# EAGLE library part KAS?103R* (library esw-dip-sw)
KAS Series Slide Dip Switches (3) Description The KAS series slide DIP switches are available with PC pin or right angle PC pin termination. Available in up to 12 positions, these DIP switches come with tape seal options and are great for controller applications, along with telecommunications and test and instrumentation. PLEASE NOTE: The right angle PC Pin termination option is not available with the recessed actuator. It is only available with the extended actuator. SPECIFICATIONS: CONTACT RATING: Switch: 25mA 24VDC Carry: 100mA 50VDC OPERATING LIFE: 2,000 Make-and-Break Cycles, Each Circuit CONTACT RESISTANCE: Initial: 50mΩ Typical at 2-4VDC at 100mA After Life: 100mΩ Typical at 2-4VDC at 100mA INSULATION RESISTANCE: 100MΩ Min. at 500VDC OPERATING FORCE: 1000gf Max. DIELECTRIC STRENGTH: 500V RMS Min. at Sea Level Between Adjacent Terminals TRAVEL, ACTUATOR: 2.00mm Typical TEMPERATURE RANGE: Operating/Storage: -40°C to 85°C VIBRATION: To MIL-STD-202F, Method 201 A SHOCK: To MIL-STD-202F, Method 213B, Condition A CAPACITANCE: 5pf Max. Between Adjacent Terminals How to order Series Model Termination Circuit Position Seal KAS S = slide type 1 = PC Pin 2 = Right Angle PC Pin 1 = SPST 02 03 04 05 06 07 08 09 10 12 R = Recessed Act., Top Side OFF E = Extended Act., Top Side OFF (None) = Std. Unsealed T = Top Tape Sealed Ref: Datasheet <http://www.e-switch.com/Portals/0/Series_Pdf/KAS.pdf> Add more variants to TL-3300@, just remplace the "@" with a new technologie named according to order code parameters. It is mandatory to fill up the following attributes MANUFACTURER, DESCRIPTION, MOUSER, AVNET, ARROW, FUTURE, NEWARK, DIGIKEY, AVRG-PRICE, OCTOPART-LINK, DATASHEET
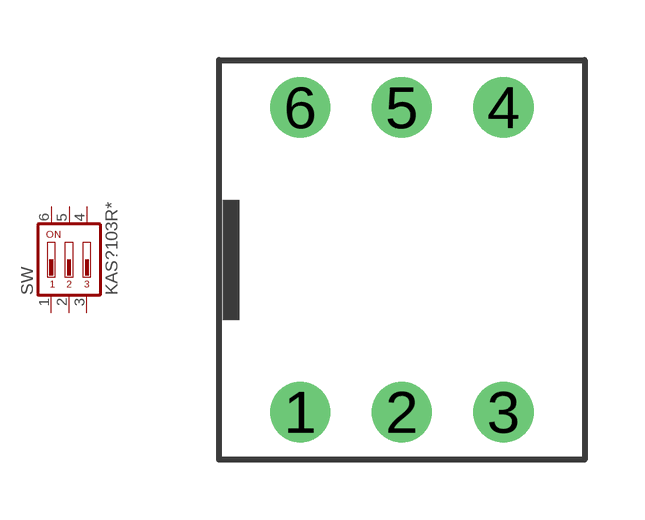
[diagram p1: symbol with the pads of DIP254P898X990-3S; footprint DIP254P898X990-3S]

Designator prefix SW

## KAS1103R  [DIP254P898X990-3S]
1  1  pas
2  2  pas
3  3  pas
4  4  pas
5  5  pas
6  6  pas

## Footprint DIP254P898X990-3S (pad centres in mm)
2.54 DIP switch (3) 8.98mm L x 9.9mm W x 6.0mm H ----------------------------------------------
drill 1: 1 -2.54,-3.81; 2 0,-3.81; 3 2.54,-3.81; 4 2.54,3.81; 5 0,3.81; 6 -2.54,3.81